# EAGLE library part NEWPART (library Other)
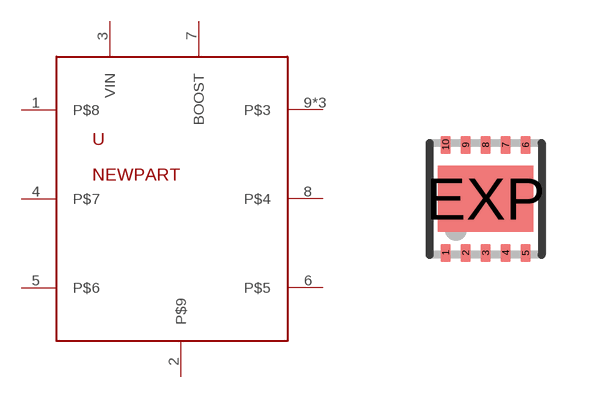
[diagram p3: symbol with the pads of DFN10-3X3; footprint DFN10-3X3]

Designator prefix U

## NEWPART  [DFN10-3X3]
1  P$8
2  P$9
3  VIN
4  P$7
5  P$6
6  P$5
7  BOOST
8  P$4
9  P$3
10  P$3
EXP  P$3

## Footprint DFN10-3X3 (pad centres in mm)
DD Package 10-Lead Plastic DFN (3mm × 3mm) (Reference LTC DWG # 05-08-1669) Source: http://www.linear.com .. 4062fa.pdf
smd 0.25 x 0.45: 1 -1,-1.35; 2 -0.5,-1.35; 3 0,-1.35; 4 0.5,-1.35; 5 1,-1.35; 6 1,1.35; 7 0.5,1.35; 8 0,1.35; 9 -0.5,1.35; 10 -1,1.35
smd 2.38 x 1.65: EXP 0,0